# EAGLE library part 6120XX21721_61200621721 (library WR-BHD)
WR-BHD 2.54 mm Male Characteristics Working Voltage: 250 V UL approval: E323964 UL94-V0 Applications Industrial Production lines Details see: www.we-online.com/components/products/WTB_WR_BHD_BOX_HEADER_2_54MM_MALE_PCB Updated by Ella 2026-09-16 2026 (C) Würth Elektronik
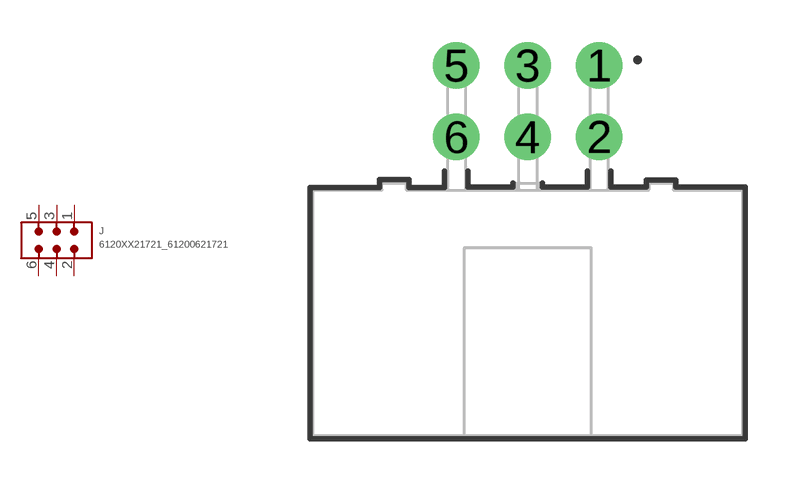
[diagram p63: symbol with the pads of 61200621721; footprint 61200621721]

Designator prefix J

## 6120XX21721_61200621721 (CATEGORY: Connectors; DATASHEET: https://www.we-online.com/redexpert/spec/61200621721?ae; GENDER: Male; LENGTH: 15.28 mm; MANUFACTURER: Würth Elektronik; MOUNT: THT; MPN: 61200621721; OPERATING_TEMPERATURE: -40 °C up to +105 °C; PACKAGING: Tray; PINS: 6; PITCH: 2.54mm; RATED_CURRENT: 3 A; SIZE: THT Angled; TYPE: Angled; VALUE: 61200621721; VERSION: Low Profile)  [61200621721]
1  1  pas
2  2  pas
3  3  pas
4  4  pas
5  5  pas
6  6  pas

## Footprint 61200621721 (pad centres in mm)
WR-BHD Wire-to-Board Connectors, 2.54mm, Male, THT Angled, 6pins
drill 1.1: 1 2.54,8.805; 2 2.54,6.265; 3 0,8.805; 4 0,6.265; 5 -2.54,8.805; 6 -2.54,6.265